# Altium footprint library Board-Footprints.PcbLib: 19 footprints (part 2 of 2)
Each footprint in its own frame and in the unit in brackets; x right, y up, seen from the top. Pads: shape width x height; smd on the part's side, far side on the other; paste and mask are expansions set on the pad; w line width, h text height; cw(c..) or ccw(c..) is an arc to the next point about the centre after c.
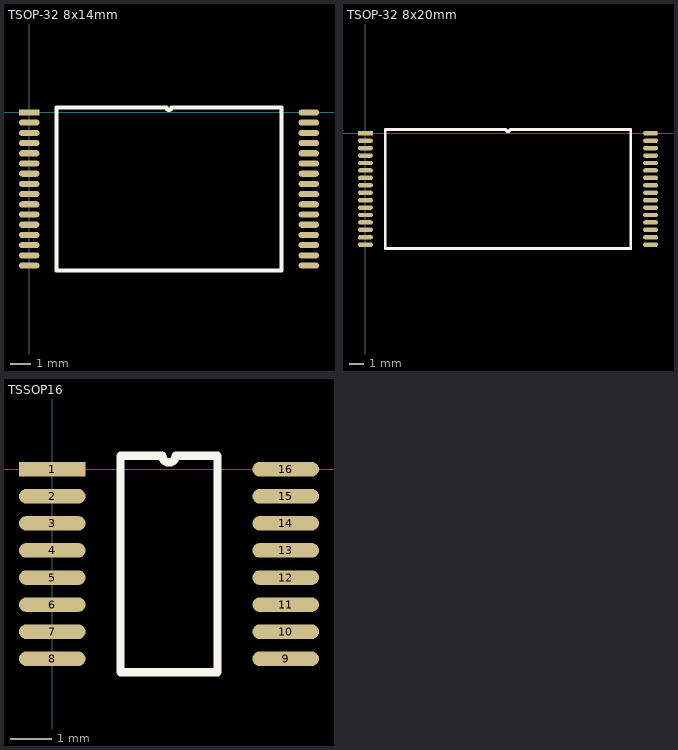
[diagram p1: the footprints below, top view; thin cyan lines are the x and y axes]

## TSOP-32 8x14mm [mm] "Use with SST39VF020"
pads (32):
  rect 1x0.3 smd: 1(0,0)
  oval 1x0.3 smd: 2(0,-0.5) 3(0,-1) 4(0,-1.5) 5(0,-2) 6(0,-2.5) 7(0,-3) 8(0,-3.5) 9(0,-4) 10(0,-4.5) 11(0,-5) 12(0,-5.5) 13(0,-6) 14(0,-6.5) 15(0,-7) 16(0,-7.5) 17(13.7,-7.5) 18(13.7,-7) 19(13.7,-6.5) 20(13.7,-6) 21(13.7,-5.5) 22(13.7,-5) 23(13.7,-4.5) 24(13.7,-4) 25(13.7,-3.5) 26(13.7,-3) 27(13.7,-2.5) 28(13.7,-2) 29(13.7,-1.5) 30(13.7,-1) 31(13.7,-0.5) 32(13.7,0)
Top Overlay:
  lines w0.2: 1.335,-7.75 1.335,0.25 6.725,0.25 ccw(c6.85,0.25) 6.975,0.25 12.365,0.25 12.365,-7.75 1.335,-7.75

## TSOP-32 8x20mm [mm] "Use with AS7C31024B"
pads (32):
  rect 1x0.3 smd: 1(0,0)
  oval 1x0.3 smd: 2(0,-0.5) 3(0,-1) 4(0,-1.5) 5(0,-2) 6(0,-2.5) 7(0,-3) 8(0,-3.5) 9(0,-4) 10(0,-4.5) 11(0,-5) 12(0,-5.5) 13(0,-6) 14(0,-6.5) 15(0,-7) 16(0,-7.5) 17(19.2,-7.5) 18(19.2,-7) 19(19.2,-6.5) 20(19.2,-6) 21(19.2,-5.5) 22(19.2,-5) 23(19.2,-4.5) 24(19.2,-4) 25(19.2,-3.5) 26(19.2,-3) 27(19.2,-2.5) 28(19.2,-2) 29(19.2,-1.5) 30(19.2,-1) 31(19.2,-0.5) 32(19.2,0)
Top Overlay:
  lines w0.2: 1.335,-7.75 1.335,0.25 9.475,0.25 ccw(c9.6,0.25) 9.725,0.25 17.865,0.25 17.865,-7.75 1.335,-7.75

## TSSOP16 [mm]
pads (16):
  rect 1.6x0.35 smd: 1(0,0)
  oval 1.6x0.35 smd: 2(0,-0.65) 3(0,-1.3) 4(0,-1.95) 5(0,-2.6) 6(0,-3.25) 7(0,-3.9) 8(0,-4.55) 9(5.6,-4.55) 10(5.6,-3.9) 11(5.6,-3.25) 12(5.6,-2.6) 13(5.6,-1.95) 14(5.6,-1.3) 15(5.6,-0.65) 16(5.6,0)
Top Overlay:
  lines w0.2: 1.635,-4.875 1.635,0.325 2.638,0.325 ccw(c2.8,0.325) 2.962,0.325 3.965,0.325 3.965,-4.875 1.635,-4.875